# Altium footprint library XH Connectors.PcbLib: 12 footprints
Each footprint in its own frame and in the unit in brackets; x right, y up, seen from the top. Pads: shape width x height; smd on the part's side, far side on the other; paste and mask are expansions set on the pad; w line width, h text height; cw(c..) or ccw(c..) is an arc to the next point about the centre after c.
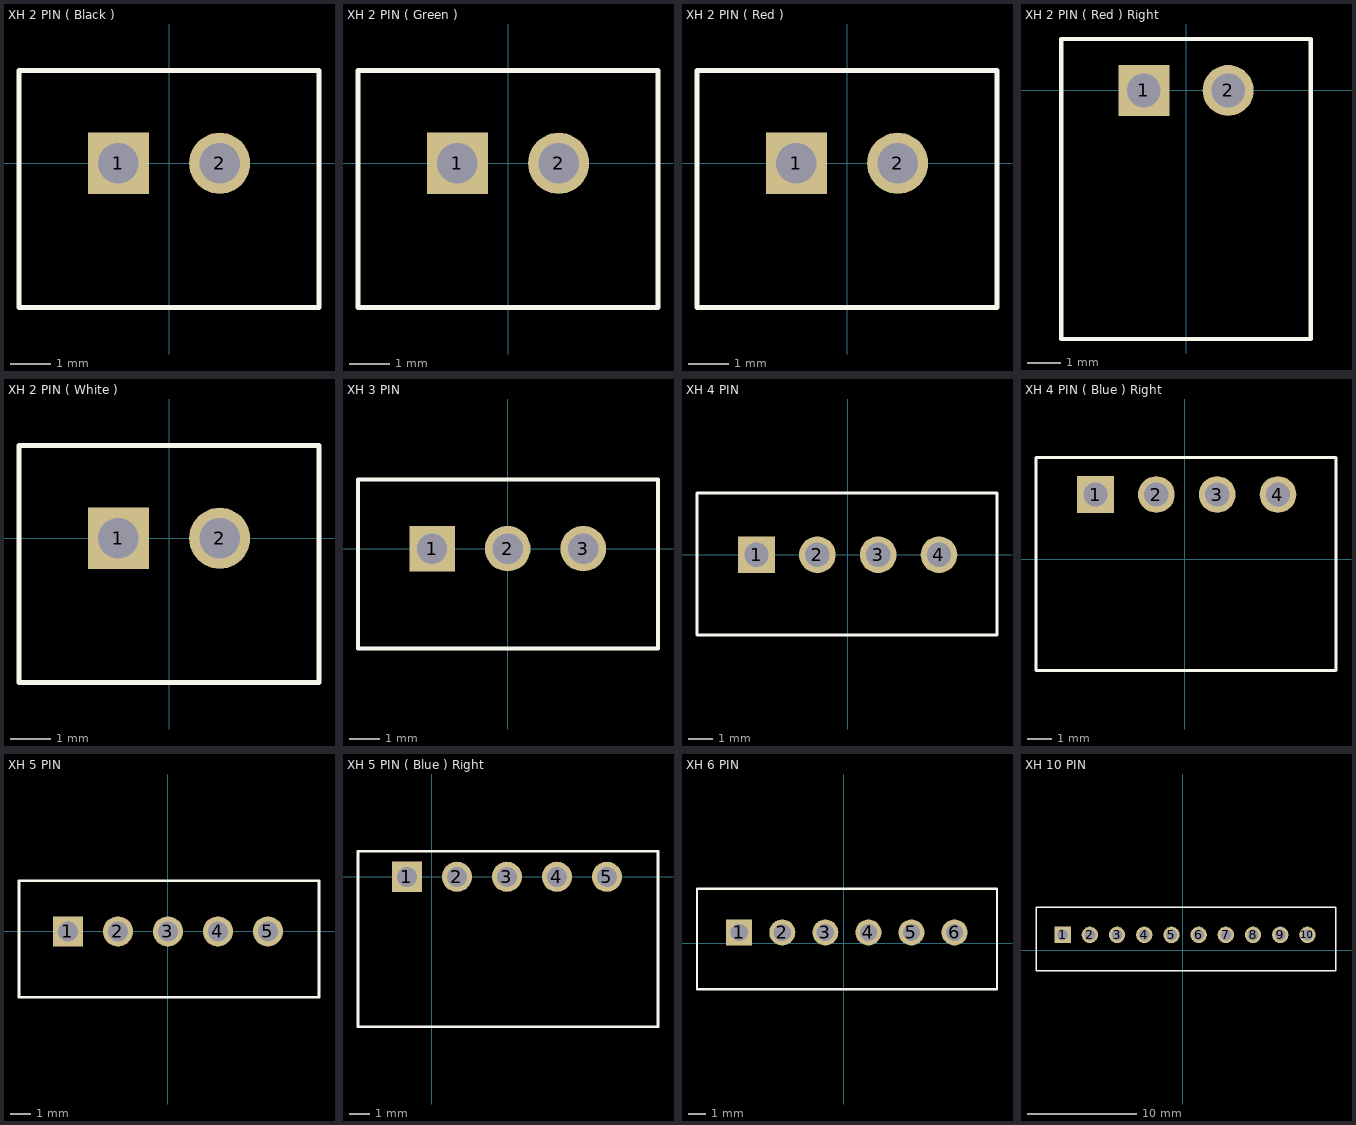
[diagram p0: the footprints below, top view; thin cyan lines are the x and y axes]

## XH 2 PIN ( Black ) [mm]
pads (2):
  rect 1.508x1.508 hole 1: 1(-1.25,0)
  round 1.508 hole 1: 2(1.25,0)
Top Overlay:
  lines w0.127: -3.7,-3.556 3.7,-3.556 3.7,2.286 -3.7,2.286 -3.7,-3.556
3D body "XH 2 Pin Black.step": height 7, standoff -3.3, extent -3.759,-3.383 3.741,2.317

## XH 2 PIN ( Green ) [mm]
pads (2):
  rect 1.508x1.508 hole 1: 1(-1.25,0)
  round 1.508 hole 1: 2(1.25,0)
Top Overlay:
  lines w0.127: -3.7,-3.556 -3.7,2.286 3.7,2.286 3.7,-3.556 -3.7,-3.556
3D body "XH 2 Pin  Green.step": height 7, standoff -3.3, extent -3.75,-3.414 3.75,2.286

## XH 2 PIN ( Red ) [mm]
pads (2):
  rect 1.508x1.508 hole 1: 1(-1.25,0)
  round 1.508 hole 1: 2(1.25,0)
Top Overlay:
  lines w0.127: -3.7,-3.556 -3.7,2.286 3.7,2.286 3.7,-3.556 -3.7,-3.556
3D body "XH 2 Pin  Red.step": height 7, standoff -3.3, extent -3.75,-3.439 3.75,2.261

## XH 2 PIN ( Red ) Right [mm]
pads (2):
  rect 1.508x1.508 hole 1: 1(-1.25,0)
  round 1.508 hole 1: 2(1.25,0)
Top Overlay:
  lines w0.127: -3.7,-7.366 -3.7,1.524 3.7,1.524 3.7,-7.366 -3.7,-7.366
3D body "XH 2 Pin  Red Right .step": height 6.55, standoff -3.4, extent -3.8,-7.32 3.8,1.48

## XH 2 PIN ( White ) [mm]
pads (2):
  rect 1.508x1.508 hole 1: 1(-1.25,0)
  round 1.508 hole 1: 2(1.25,0)
Top Overlay:
  lines w0.127: -3.7,-3.556 -3.7,2.286 3.7,2.286 3.7,-3.556 -3.7,-3.556
3D body "User Library-XH2_54_ZC_2P.step": height 7, standoff -4, extent -3.7,-3.556 3.7,2.244

## XH 3 PIN [mm]
pads (3):
  rect 1.508x1.508 hole 1: 1(-2.5,0)
  round 1.508 hole 1: 2(0,0) 3(2.5,0)
Top Overlay:
  lines w0.127: -4.95,-3.302 4.973,-3.302 4.973,2.286 -4.95,2.286 -4.95,-3.302
3D body "User Library-XH-A-2.step": height 7.24, standoff -3.16, extent -4.933,-3.304 4.967,2.796

## XH 4 PIN [mm]
pads (4):
  rect 1.508x1.508 hole 1: 1(-3.75,0)
  round 1.508 hole 1: 2(-1.25,0) 3(1.25,0) 4(3.75,0)
Top Overlay:
  lines w0.127: -6.2,-3.302 -6.2,2.54 6.136,2.54 6.136,-3.302 -6.2,-3.302
3D body "User Library-JST XH TH 4Pin 2 (1).step": height 7.21, standoff -3, extent -6.047,-3.353 6.127,2.489

## XH 4 PIN ( Blue ) Right [mm]
pads (4):
  rect 1.508x1.508 hole 1: 1(-3.663,2.667)
  round 1.508 hole 1: 2(-1.163,2.667) 3(1.337,2.667) 4(3.837,2.667)
Top Overlay:
  lines w0.127: -6.113,-4.572 -6.113,4.191 6.223,4.191 6.223,-4.572 -6.113,-4.572
3D body "XH 4 Pin Blue Right .step": height 6.55, standoff -3.4, extent -6.148,-4.653 6.352,4.147

## XH 5 PIN [mm]
pads (5):
  rect 1.508x1.508 hole 1: 1(-5,0)
  round 1.508 hole 1: 2(-2.5,0) 3(0,0) 4(2.5,0) 5(5,0)
Top Overlay:
  lines w0.127: -7.45,-3.302 7.553,-3.302 7.553,2.54 -7.45,2.54 -7.45,-3.302
3D body "XH 5 Pin  White.step": height 7, standoff -1.8, extent -7.549,-3.378 7.491,2.422

## XH 5 PIN ( Blue ) Right [mm]
pads (5):
  rect 1.508x1.508 hole 1: 1(-1.25,0)
  round 1.508 hole 1: 2(1.25,0) 3(3.75,0) 4(6.25,0) 5(8.75,0)
Top Overlay:
  lines w0.127: -3.7,-7.493 -3.7,1.27 11.303,1.27 11.303,-7.493 -3.7,-7.493
3D body "XH 5 Pin Blue Right .step": height 5.74, standoff -1.5, extent -3.741,-7.497 11.259,0.229

## XH 6 PIN [mm]
pads (6):
  rect 1.508x1.508 hole 1: 1(-6.076,0.635)
  round 1.508 hole 1: 2(-3.576,0.635) 3(-1.076,0.635) 4(1.424,0.635) 5(3.924,0.635) 6(6.424,0.635)
Top Overlay:
  lines w0.127: -8.526,-2.667 8.89,-2.667 8.89,3.175 -8.526,3.175 -8.526,-2.667
3D body "XH 6 Pin  White.step": height 7.21, standoff -3, extent -8.509,-2.718 8.865,3.124

## XH 10 PIN [mm]
pads (10):
  rect 1.508x1.508 hole 1: 1(-11.029,1.397)
  round 1.508 hole 1: 2(-8.529,1.397) 3(-6.029,1.397) 4(-3.529,1.397) 5(-1.029,1.397) 6(1.471,1.397) 7(3.971,1.397) 8(6.471,1.397) 9(8.971,1.397) 10(11.471,1.397)
Top Overlay:
  lines w0.127: -13.479,-1.905 -13.479,3.937 14.097,3.937 14.097,-1.905 -13.479,-1.905
3D body "XH 10 Pin  White.step": height 7.21, standoff -3, extent -13.462,-2.032 14.072,3.81